# Altium footprint library ConnectorsGOST.PcbLib: 50 footprints (part 1 of 4)
Each footprint in its own frame and in the unit in brackets; x right, y up, seen from the top. Pads: shape width x height; smd on the part's side, far side on the other; paste and mask are expansions set on the pad; w line width, h text height; cw(c..) or ccw(c..) is an arc to the next point about the centre after c.
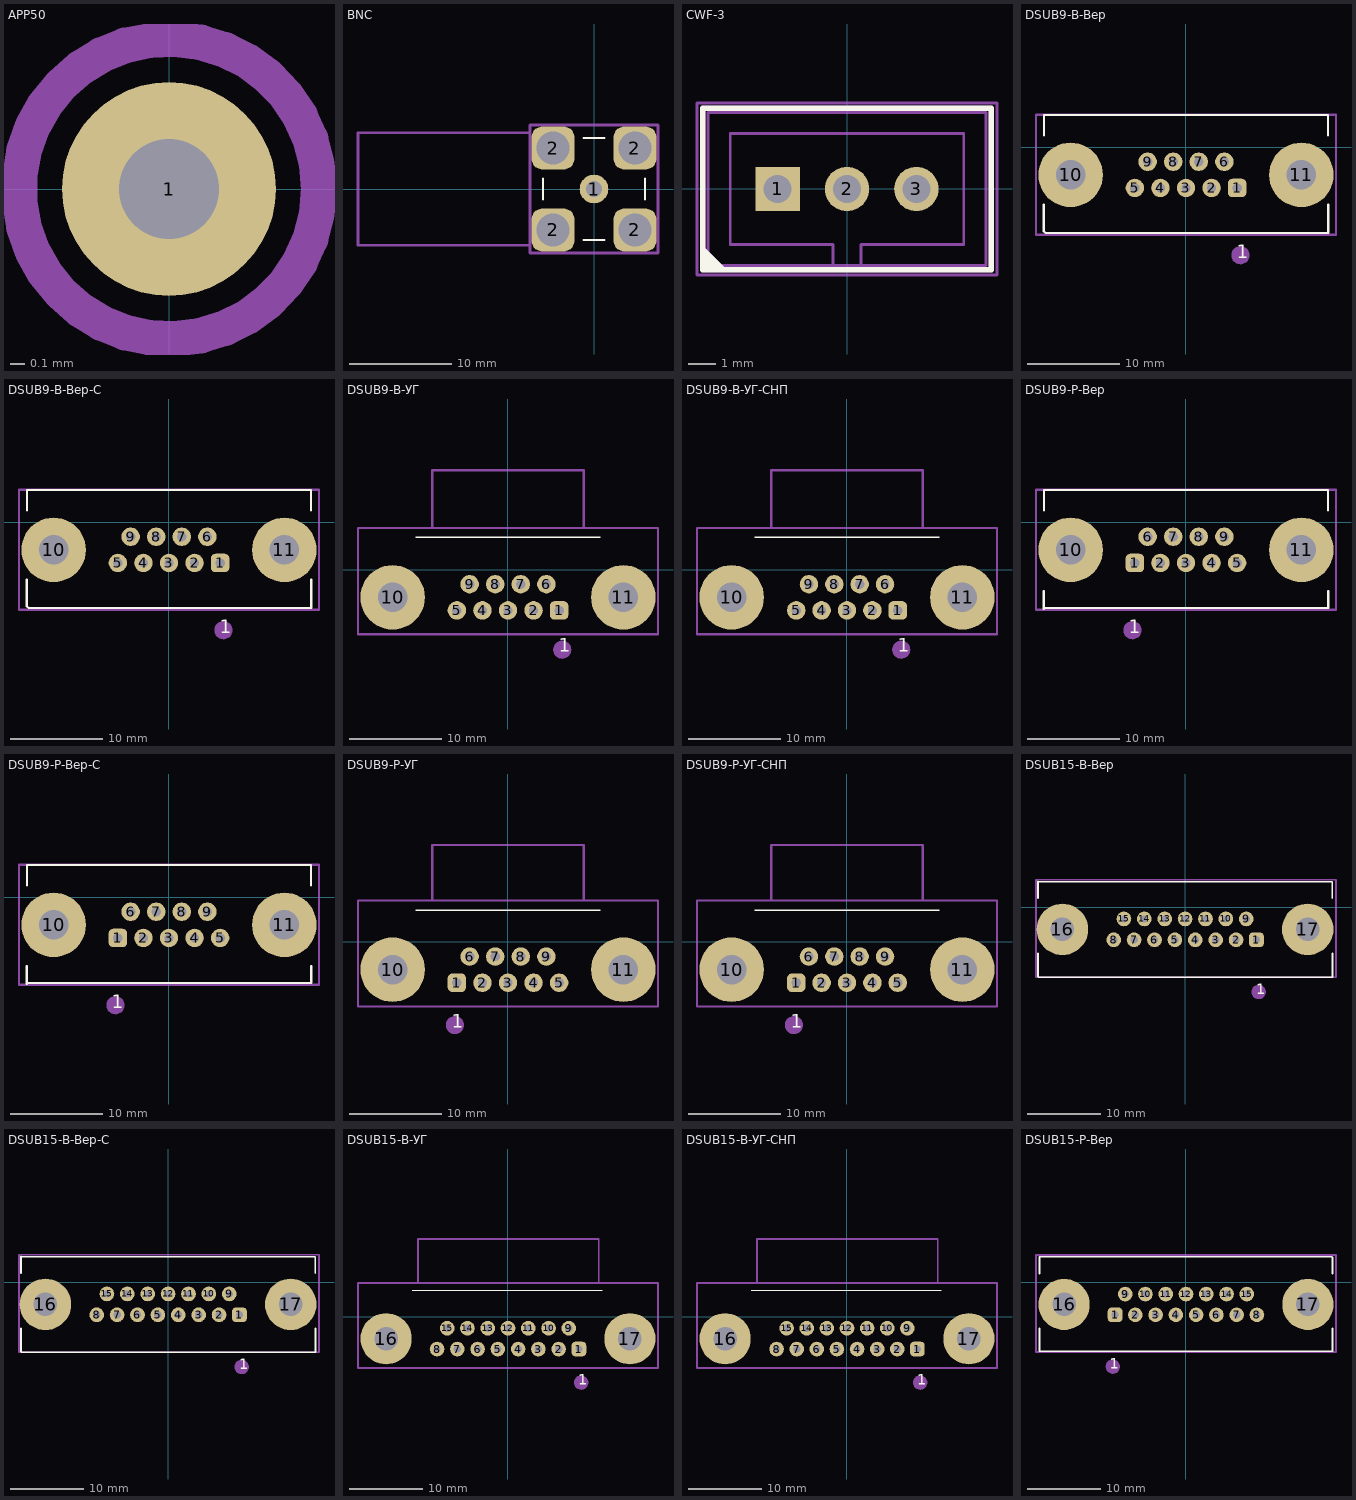
[diagram p0: the footprints below, top view; thin cyan lines are the x and y axes]

## APP50 [mm]
height 6
pads (1):
  round 1.5 hole 0.7: 1(0,0)
Top Sborka:
  circle w0.25: c0,0 r1.051
Top Designator (Mech16):
  text ".Designator" at -5.15,-0.547 h2.5

## BNC [mm] "CONN, RF, COAX, SMA, RIGHT ANGLE THD"
height 16
pads (5):
  round 2.8 hole 1.6: 1(0,0)
  rrect50% 4.2x4.2 / inner rrect50% 3.5x3.5 / far side rrect50% 4.2x4.2 hole 3.2: 2(-4,-4) 2(-4,4) 2(4,-4) 2(4,4)
Top Overlay:
  lines w0.2: -5,-1 -5,1 ; -1,-5 1,-5 ; -1,5 1,5 ; 5,-1 5,1
Top Sborka:
  lines w0.25: -23.05,-5.5 -6.25,-5.5 -6.25,5.5 -23.05,5.5 -23.05,-5.5 ; -6.25,-6.25 -6.25,6.25 6.25,6.25 6.25,-6.25 -6.25,-6.25
Top Designator (Mech16):
  text ".Designator" at -15.262,-0.547 h2.5
3D body "51K204-400A5.stp": height 14.6, standoff -5, extent -26.6,-6 6,6

## CWF-3 [mm]
pads (3):
  rect 1.6x1.6 hole 1: 1(-2.5,0)
  round 1.6 hole 1: 2(0,0) 3(2.5,0)
Top Overlay:
  lines w0.2: -5.183,-2.583 -4.866,-2.9 ; -5.183,-2.383 -4.683,-2.883 ; -5.183,-2.183 -4.466,-2.9 ; -5.2,-2.9 -5.2,2.9 5.2,2.9 5.2,-2.9 -5.2,-2.9
Top Sborka:
  lines w0.2: -5.183,-2.583 -4.866,-2.9 ; -5.183,-2.383 -4.683,-2.883 ; -5.183,-2.183 -4.466,-2.9 ; -5.2,-2.9 -5.2,2.9 5.2,2.9 5.2,-2.9 -5.2,-2.9
Mechanical 13:
  lines w0.1: -5,-2.75 -5,2.75 5,2.75 5,-2.75 -5,-2.75
Mechanical 15:
  lines w0.1: -0.5,-2.7 -0.5,-2 -4.2,-2 -4.2,2 4.2,2 4.2,-2 0.5,-2 0.5,-2.7 ; -0.5,0 0.5,0 ; 0,-0.5 0,0.5 ; -5.4,-3.1 5.4,-3.1 5.4,3.1 -5.4,3.1 -5.4,-3.1
Top Designator (Mech16):
  text ".Designator" at -5.15,-0.547 h2.5
3D body: height 2.4, standoff 0, extent -5,-2.752 5,2.75
3D body: height 7.7, standoff 0, extent -5,-2.75 5,2.75
3D body: height 7.7, standoff 0, extent -1.5,-2.75 1.5,-2

## DSUB9-В-Вер [mm] "Connector; D Subminiature; 9 Position; Right Angle; Pitch 1.385 mm"
height 12.75
pads (11):
  rrect50% 2x2 hole 1: 1(5.54,-4.42)
  round 2 hole 1: 2(2.77,-4.42) 3(0,-4.42) 4(-2.77,-4.42) 5(-5.54,-4.42) 6(4.155,-1.58) 7(1.385,-1.58) 8(-1.385,-1.58) 9(-4.155,-1.58)
  round 7 / inner round 4.2 / far side round 7 hole 3.2: 10(-12.495,-3) 11(12.495,-3)
Top Overlay:
  lines w0.2: -15.4,1.25 -15.4,3.5 15.4,3.5 15.4,1.25
  lines w0.254: -15.4,-6.25 -15.4,-9.1 -15.2,-9.3 15.4,-9.3 ; 15.4,-6.25 15.4,-9.3 ; 15.4,-9.3 15.4,-9.3
  text "1" at 5.5,-12.5 h2.5
Top Sborka:
  circle w0.25: c5.9,-11.7 r0.704
  circle w0.25: c5.9,-11.7 r0.292
  circle w0.25: c5.9,-11.7 r0.861
  circle w0.25: c5.9,-11.7 r0.506
  circle w0.25: c5.9,-11.7 r0.09
  circle w0.8: c5.9,-11.7 r0.4
  lines w0.25: -16.25,-9.5 16.25,-9.5 16.25,3.5 -16.25,3.5 -16.25,-9.5
Top Designator (Mech16):
  text ".Designator" at -5.15,-3.747 h2.5
3D body "DSUB-9_Male_Vertical_P2.77x2.84mm_MountingHoles.step": height 10.5, standoff -3.9, extent -15.375,-9.175 15.425,3.325

## DSUB9-В-Вер-С [mm] "Connector; D Subminiature; 9 Position; Right Angle; Pitch 1.385 mm"
height 12.75
pads (11):
  rrect50% 2x2 hole 1: 1(5.54,-4.42)
  round 2 hole 1: 2(2.77,-4.42) 3(0,-4.42) 4(-2.77,-4.42) 5(-5.54,-4.42) 6(4.155,-1.58) 7(1.385,-1.58) 8(-1.385,-1.58) 9(-4.155,-1.58)
  round 7 / inner round 4.2 / far side round 7 hole 3.2: 10(-12.495,-3) 11(12.495,-3)
Top Overlay:
  lines w0.2: -15.4,1.25 -15.4,3.5 15.4,3.5 15.4,1.25
  lines w0.254: -15.4,-6.25 -15.4,-9.1 -15.2,-9.3 15.4,-9.3 ; 15.4,-6.25 15.4,-9.3 ; 15.4,-9.3 15.4,-9.3
  text "1" at 5.5,-12.5 h2.5
Top Sborka:
  circle w0.8: c5.9,-11.7 r0.4
  circle w0.25: c5.9,-11.7 r0.09
  circle w0.25: c5.9,-11.7 r0.506
  circle w0.25: c5.9,-11.7 r0.861
  circle w0.25: c5.9,-11.7 r0.292
  circle w0.25: c5.9,-11.7 r0.704
  lines w0.25: -16.25,-9.5 16.25,-9.5 16.25,3.5 -16.25,3.5 -16.25,-9.5
Top Designator (Mech16):
  text ".Designator" at -5.15,-3.747 h2.5
3D body "Сборка D-SUB9-В-Вер-С.stp": height 11.5, standoff -5.05, extent -15.44,-9.13 15.36,3.37

## DSUB9-В-УГ [mm] "Connector; D Subminiature; 9 Position; Right Angle; Pitch 1.385 mm"
height 12.75
pads (11):
  rrect50% 2x2 hole 1: 1(5.54,-4.42)
  round 2 hole 1: 2(2.77,-4.42) 3(0,-4.42) 4(-2.77,-4.42) 5(-5.54,-4.42) 6(4.155,-1.58) 7(1.385,-1.58) 8(-1.385,-1.58) 9(-4.155,-1.58)
  round 7 / inner round 4.2 / far side round 7 hole 3.2: 10(-12.495,-3) 11(12.495,-3)
Top Overlay:
  lines w0.15: -10,3.5 10,3.5
  text "1" at 5.5,-9.4 h2.5
Top Sborka:
  circle w0.25: c5.875,-8.675 r0.704
  circle w0.25: c5.875,-8.675 r0.292
  circle w0.25: c5.875,-8.675 r0.861
  circle w0.25: c5.875,-8.675 r0.506
  circle w0.25: c5.875,-8.675 r0.09
  lines w0.25: -16.25,-7 16.25,-7 16.25,4.5 -16.25,4.5 -16.25,-7 ; -8.2,4.5 8.2,4.5 8.2,10.75 -8.2,10.75 -8.2,4.5
Top Designator (Mech16):
  text ".Designator" at -5.25,-3.447 h2.5
3D body "DSUB-9_Male_Horizontal_P2.77x2.84mm_EdgePinOffset4.94mm_Housed_MountingHolesOffset7.48mm.step": height 12.5, standoff -5.4, extent -15.45,-6.955 15.35,9.625

## DSUB9-В-УГ-СНП [mm] "Connector; D Subminiature; 9 Position; Right Angle; Pitch 1.385 mm"
height 12.75
pads (11):
  rrect50% 2x2 hole 1: 1(5.5,-4.42)
  round 2 hole 1: 2(2.75,-4.42) 3(0,-4.42) 4(-2.75,-4.42) 5(-5.5,-4.42) 6(4.125,-1.58) 7(1.375,-1.58) 8(-1.375,-1.58) 9(-4.125,-1.58)
  round 7 / inner round 4.2 / far side round 7 hole 3.2: 10(-12.495,-3) 11(12.495,-3)
Top Overlay:
  lines w0.15: -10,3.5 10,3.5
  text "1" at 5.5,-9.4 h2.5
Top Sborka:
  circle w0.25: c5.875,-8.675 r0.09
  circle w0.25: c5.875,-8.675 r0.506
  circle w0.25: c5.875,-8.675 r0.861
  circle w0.25: c5.875,-8.675 r0.292
  circle w0.25: c5.875,-8.675 r0.704
  lines w0.25: -16.25,-7 -16.25,4.5 16.25,4.5 16.25,-7 -16.25,-7 ; -8.2,4.5 -8.2,10.75 8.2,10.75 8.2,4.5 -8.2,4.5
Top Designator (Mech16):
  text ".Designator" at -5.25,-3.447 h2.5
3D body "DSUB-9_Male_Horizontal_P2.77x2.84mm_EdgePinOffset4.94mm_Housed_MountingHolesOffset7.48mm.step": height 12.5, standoff -5.4, extent -15.45,-6.955 15.35,9.625

## DSUB9-Р-Вер [mm] "Connector; D Subminiature; 9 Position; Right Angle; Pitch 1.385 mm"
height 12.75
pads (11):
  rrect50% 2x2 hole 1: 1(-5.54,-4.42)
  round 2 hole 1: 2(-2.77,-4.42) 3(0,-4.42) 4(2.77,-4.42) 5(5.54,-4.42) 6(-4.155,-1.58) 7(-1.385,-1.58) 8(1.385,-1.58) 9(4.155,-1.58)
  round 7 / inner round 4.2 / far side round 7 hole 3.2: 10(-12.495,-3) 11(12.495,-3)
Top Overlay:
  lines w0.2: -15.4,1.25 -15.4,3.5 15.4,3.5 15.4,1.25
  lines w0.254: -15.4,-7.5 -15.4,-9.4 -15.3,-9.3 15.4,-9.3 ; 15.4,-7.5 15.4,-9.3 ; 15.4,-9.3 15.4,-9.3
  text "1" at -6.2,-12.5 h2.5
Top Sborka:
  circle w0.8: c-5.8,-11.7 r0.4
  circle w0.25: c-5.8,-11.7 r0.09
  circle w0.25: c-5.8,-11.7 r0.506
  circle w0.25: c-5.8,-11.7 r0.861
  circle w0.25: c-5.8,-11.7 r0.292
  circle w0.25: c-5.8,-11.7 r0.704
  lines w0.25: -16.25,-9.5 16.25,-9.5 16.25,3.5 -16.25,3.5 -16.25,-9.5
Top Designator (Mech16):
  text ".Designator" at -5.15,-3.447 h2.5
3D body "DSUB-9_Female_Vertical_P2.77x2.84mm_MountingHoles.step": height 10.8, standoff -3.9, extent -15.4,-9.25 15.4,3.25

## DSUB9-Р-Вер-С [mm] "Connector; D Subminiature; 9 Position; Right Angle; Pitch 1.385 mm"
height 12.75
pads (11):
  rrect50% 2x2 hole 1: 1(-5.54,-4.42)
  round 2 hole 1: 2(-2.77,-4.42) 3(0,-4.42) 4(2.77,-4.42) 5(5.54,-4.42) 6(-4.155,-1.58) 7(-1.385,-1.58) 8(1.385,-1.58) 9(4.155,-1.58)
  round 7 / inner round 4.2 / far side round 7 hole 3.2: 10(-12.495,-3) 11(12.495,-3)
Top Overlay:
  lines w0.2: -15.4,1.25 -15.4,3.5 15.4,3.5 15.4,1.25
  lines w0.254: -15.4,-7.5 -15.4,-9.4 -15.3,-9.3 15.4,-9.3 ; 15.4,-7.5 15.4,-9.3 ; 15.4,-9.3 15.4,-9.3
  text "1" at -6.2,-12.5 h2.5
Top Sborka:
  circle w0.25: c-5.8,-11.7 r0.704
  circle w0.25: c-5.8,-11.7 r0.292
  circle w0.25: c-5.8,-11.7 r0.861
  circle w0.25: c-5.8,-11.7 r0.506
  circle w0.25: c-5.8,-11.7 r0.09
  circle w0.8: c-5.8,-11.7 r0.4
  lines w0.25: -16.25,-9.5 -16.25,3.5 16.25,3.5 16.25,-9.5 -16.25,-9.5
Top Designator (Mech16):
  text ".Designator" at -5.15,-3.447 h2.5
3D body "Сборка D-SUB9-Р-Вер.stp": height 11.8, standoff -5.02, extent -15.36,-9.23 15.44,3.27

## DSUB9-Р-УГ [mm] "Connector; D Subminiature; 9 Position; Right Angle; Pitch 1.385 mm"
height 12.75
pads (11):
  rrect50% 2x2 hole 1: 1(-5.54,-4.42)
  round 2 hole 1: 2(-2.77,-4.42) 3(0,-4.42) 4(2.77,-4.42) 5(5.54,-4.42) 6(-4.155,-1.58) 7(-1.385,-1.58) 8(1.385,-1.58) 9(4.155,-1.58)
  round 7 / inner round 4.2 / far side round 7 hole 3.2: 10(-12.495,-3) 11(12.495,-3)
Top Overlay:
  lines w0.15: -10,3.45 10,3.45
  text "1" at -6.1,-9.8 h2.5
Top Sborka:
  circle w0.25: c-5.75,-9 r0.704
  circle w0.25: c-5.75,-9 r0.292
  circle w0.25: c-5.75,-9 r0.861
  circle w0.25: c-5.75,-9 r0.506
  circle w0.25: c-5.75,-9 r0.09
  circle w0.8: c-5.75,-9 r0.4
  lines w0.25: -16.25,-7 16.25,-7 16.25,4.5 -16.25,4.5 -16.25,-7 ; -8.2,4.5 8.2,4.5 8.2,10.5 -8.2,10.5 -8.2,4.5
Top Designator (Mech16):
  text ".Designator" at -5.15,-3.447 h2.5
3D body "DSUB-9_Female_Horizontal_P2.77x2.84mm_EdgePinOffset4.94mm_Housed_MountingHolesOffset7.48mm.step": height 12.5, standoff -5.4, extent -15.4,-7.12 15.4,9.76

## DSUB9-Р-УГ-СНП [mm] "Connector; D Subminiature; 9 Position; Right Angle; Pitch 1.385 mm"
height 12.75
pads (11):
  rrect50% 2x2 hole 1: 1(-5.5,-4.42)
  round 2 hole 1: 2(-2.75,-4.42) 3(0,-4.42) 4(2.75,-4.42) 5(5.5,-4.42) 6(-4.125,-1.58) 7(-1.375,-1.58) 8(1.375,-1.58) 9(4.125,-1.58)
  round 7 / inner round 4.2 / far side round 7 hole 3.2: 10(-12.495,-3) 11(12.495,-3)
Top Overlay:
  lines w0.15: -10,3.45 10,3.45
  text "1" at -6.1,-9.8 h2.5
Top Sborka:
  circle w0.25: c-5.75,-9 r0.704
  circle w0.25: c-5.75,-9 r0.292
  circle w0.25: c-5.75,-9 r0.861
  circle w0.25: c-5.75,-9 r0.506
  circle w0.25: c-5.75,-9 r0.09
  circle w0.8: c-5.75,-9 r0.4
  lines w0.25: -16.25,-7 16.25,-7 16.25,4.5 -16.25,4.5 -16.25,-7 ; -8.2,4.5 8.2,4.5 8.2,10.5 -8.2,10.5 -8.2,4.5
Top Designator (Mech16):
  text ".Designator" at -5.15,-3.447 h2.5
3D body "DSUB-9_Female_Horizontal_P2.77x2.84mm_EdgePinOffset4.94mm_Housed_MountingHolesOffset7.48mm.step": height 12.5, standoff -5.4, extent -15.4,-7.12 15.4,9.76

## DSUB15-В-Вер [mm] "Connector; D Subminiature; 15 Position; Right Angle; Pitch 1.385 mm"
height 12.75
pads (17):
  rrect50% 2x2 hole 1: 1(9.695,-4.42)
  round 2 hole 1: 2(6.925,-4.42) 3(4.155,-4.42) 4(1.385,-4.42) 5(-1.385,-4.42) 6(-4.155,-4.42) 7(-6.925,-4.42) 8(-9.695,-4.42) 9(8.31,-1.58) 10(5.54,-1.58) 11(2.77,-1.58) 12(0,-1.58) 13(-2.77,-1.58) 14(-5.54,-1.58) 15(-8.31,-1.58)
  round 7 / inner round 4.2 / far side round 7 hole 3.2: 16(-16.66,-3) 17(16.66,-3)
Top Overlay:
  lines w0.2: -20,3.5 19.9,3.5 20,3.4
  lines w0.25: -20,1.25 -20,3.5 ; 20,1.25 20,3.4
  lines w0.254: -20,-6.25 -20,-9.4 -19.9,-9.5 20,-9.5 20,-6.25
  text "1" at 9.7,-12.3 h2.5
Top Sborka:
  circle w0.25: c10,-11.5 r0.704
  circle w0.25: c10,-11.5 r0.292
  circle w0.25: c10,-11.5 r0.861
  circle w0.25: c10,-11.5 r0.506
  circle w0.25: c10,-11.5 r0.09
  circle w0.8: c10,-11.5 r0.4
  lines w0.25: -20.25,-9.5 20.5,-9.5 20.5,3.75 -20.25,3.75 -20.25,-9.5
Top Designator (Mech16):
  text ".Designator" at -5.05,-3.847 h2.5
3D body "DSUB-15_Male_Vertical_P2.77x2.84mm.step": height 10.5, standoff -3.77, extent -19.5,-9.2 19.7,3.3

## DSUB15-В-Вер-С [mm] "Connector; D Subminiature; 15 Position; Right Angle; Pitch 1.385 mm"
height 12.75
pads (17):
  rrect50% 2x2 hole 1: 1(9.695,-4.42)
  round 2 hole 1: 2(6.925,-4.42) 3(4.155,-4.42) 4(1.385,-4.42) 5(-1.385,-4.42) 6(-4.155,-4.42) 7(-6.925,-4.42) 8(-9.695,-4.42) 9(8.31,-1.58) 10(5.54,-1.58) 11(2.77,-1.58) 12(0,-1.58) 13(-2.77,-1.58) 14(-5.54,-1.58) 15(-8.31,-1.58)
  round 7 / inner round 4.2 / far side round 7 hole 3.2: 16(-16.66,-3) 17(16.66,-3)
Top Overlay:
  lines w0.2: -20,3.5 19.9,3.5 20,3.4
  lines w0.25: -20,1.25 -20,3.5 ; 20,1.25 20,3.4
  lines w0.254: -20,-6.25 -20,-9.4 -19.9,-9.5 20,-9.5 20,-6.25
  text "1" at 9.7,-12.3 h2.5
Top Sborka:
  circle w0.8: c10,-11.5 r0.4
  circle w0.25: c10,-11.5 r0.09
  circle w0.25: c10,-11.5 r0.506
  circle w0.25: c10,-11.5 r0.861
  circle w0.25: c10,-11.5 r0.292
  circle w0.25: c10,-11.5 r0.704
  lines w0.25: -20.25,-9.5 20.5,-9.5 20.5,3.75 -20.25,3.75 -20.25,-9.5
Top Designator (Mech16):
  text ".Designator" at -5.05,-3.847 h2.5
3D body "Сборка D-SUB15-В-Вер-С.stp": height 11.5, standoff -5.02, extent -19.695,-9.03 19.505,3.47

## DSUB15-В-УГ [mm] "Connector; D Subminiature; 15 Position; Right Angle; Pitch 1.385 mm"
height 12.75
pads (17):
  rrect50% 2x2 hole 1: 1(9.695,-4.42)
  round 2 hole 1: 2(6.925,-4.42) 3(4.155,-4.42) 4(1.385,-4.42) 5(-1.385,-4.42) 6(-4.155,-4.42) 7(-6.925,-4.42) 8(-9.695,-4.42) 9(8.31,-1.58) 10(5.54,-1.58) 11(2.77,-1.58) 12(0,-1.58) 13(-2.77,-1.58) 14(-5.54,-1.58) 15(-8.31,-1.58)
  round 7 / inner round 4.2 / far side round 7 hole 3.2: 16(-16.66,-3) 17(16.66,-3)
Top Overlay:
  lines w0.15: -13.1,3.6 12.9,3.6
  text "1" at 9.6,-9.8 h2.5
Top Sborka:
  circle w0.25: c10,-9 r0.704
  circle w0.25: c10,-9 r0.292
  circle w0.25: c10,-9 r0.861
  circle w0.25: c10,-9 r0.506
  circle w0.25: c10,-9 r0.09
  circle w0.8: c10,-9 r0.4
  lines w0.25: -20.5,-7 20.5,-7 20.5,4.6 -20.5,4.6 -20.5,-7 ; -12.3,4.6 12.4,4.6 12.4,10.6 -12.3,10.6 -12.3,4.6
Top Designator (Mech16):
  text ".Designator" at -5.15,-3.747 h2.5
3D body "DSUB-15_Male_Horizontal_P2.77x2.84mm_EdgePinOffset4.94mm_Housed_MountingHolesOffset7.48mm.step": height 12.5, standoff -5.4, extent -19.65,-7.25 19.55,9.33

## DSUB15-В-УГ-СНП [mm] "Connector; D Subminiature; 15 Position; Right Angle; Pitch 1.385 mm"
height 12.75
pads (17):
  rrect50% 2x2 hole 1: 1(9.625,-4.42)
  round 2 hole 1: 2(6.875,-4.42) 3(4.125,-4.42) 4(1.375,-4.42) 5(-1.375,-4.42) 6(-4.125,-4.42) 7(-6.875,-4.42) 8(-9.625,-4.42) 9(8.25,-1.58) 10(5.5,-1.58) 11(2.75,-1.58) 12(0,-1.58) 13(-2.75,-1.58) 14(-5.5,-1.58) 15(-8.25,-1.58)
  round 7 / inner round 4.2 / far side round 7 hole 3.2: 16(-16.66,-3) 17(16.66,-3)
Top Overlay:
  lines w0.15: -13.1,3.6 12.9,3.6
  text "1" at 9.6,-9.8 h2.5
Top Sborka:
  circle w0.8: c10,-9 r0.4
  circle w0.25: c10,-9 r0.09
  circle w0.25: c10,-9 r0.506
  circle w0.25: c10,-9 r0.861
  circle w0.25: c10,-9 r0.292
  circle w0.25: c10,-9 r0.704
  lines w0.25: -20.5,-7 -20.5,4.6 20.5,4.6 20.5,-7 -20.5,-7 ; -12.3,4.6 -12.3,10.6 12.4,10.6 12.4,4.6 -12.3,4.6
Top Designator (Mech16):
  text ".Designator" at -5.15,-3.747 h2.5
3D body "DSUB-15_Male_Horizontal_P2.77x2.84mm_EdgePinOffset4.94mm_Housed_MountingHolesOffset7.48mm.step": height 12.5, standoff -5.4, extent -19.65,-7.25 19.55,9.33

## DSUB15-Р-Вер [mm] "Connector; D Subminiature; 15 Position; Right Angle; Pitch 1.385 mm"
height 12.75
pads (17):
  rrect50% 2x2 hole 1: 1(-9.695,-4.42)
  round 2 hole 1: 2(-6.925,-4.42) 3(-4.155,-4.42) 4(-1.385,-4.42) 5(1.385,-4.42) 6(4.155,-4.42) 7(6.925,-4.42) 8(9.695,-4.42) 9(-8.31,-1.58) 10(-5.54,-1.58) 11(-2.77,-1.58) 12(0,-1.58) 13(2.77,-1.58) 14(5.54,-1.58) 15(8.31,-1.58)
  round 7 / inner round 4.2 / far side round 7 hole 3.2: 16(-16.66,-3) 17(16.66,-3)
Top Overlay:
  lines w0.2: -20,3.5 20,3.5
  lines w0.25: -20,1.25 -20,3.5 ; 20,1.25 20,3.4
  lines w0.254: -20,-6.25 -20,-9.4 20,-9.4 20,-6.25
  text "1" at -10.4,-12.3 h2.5
Top Sborka:
  circle w0.8: c-10,-11.5 r0.4
  circle w0.25: c-10,-11.5 r0.09
  circle w0.25: c-10,-11.5 r0.506
  circle w0.25: c-10,-11.5 r0.861
  circle w0.25: c-10,-11.5 r0.292
  circle w0.25: c-10,-11.5 r0.704
  lines w0.25: -20.5,-9.5 20.5,-9.5 20.5,3.75 -20.5,3.75 -20.5,-9.5
Top Designator (Mech16):
  text ".Designator" at -5.15,-3.747 h2.5
3D body "DSUB-15_Female_Vertical_P2.77x2.84mm.step": height 10.8, standoff -3.77, extent -19.5,-9.2 19.7,3.3